# Altium schematic symbol library 13-Relay.SchLib: 5 symbols
Pins are listed as number, name and electrical type; pins without a type are passive.

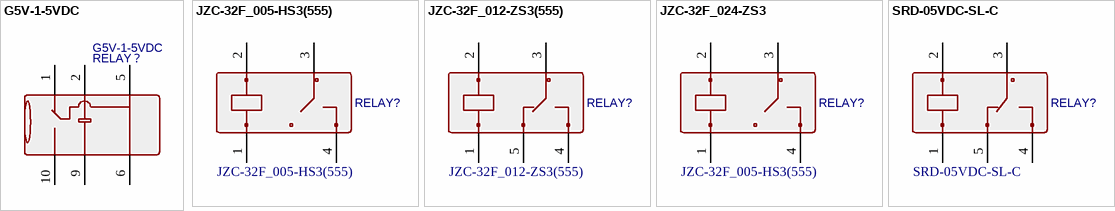
[diagram p0: symbols G5V-1-5VDC to SRD-05VDC-SL-C]

## G5V-1-5VDC
designator RELAY？
欧姆龙 继电器; BOM_Manufacturer: OMRON; BOM_Supplier: LCSC; BOM_Manufacturer Part: G5V-1-5VDC; image: //image.lceda.cn/szlcsc/C28695.jpg; BOM_Supplier Part: C28695; spicePre: R; spiceSymbolName: G5V-1-5VDC
footprint RELAY TH_G5V-1
pins: 1, 2, 5, 6, 9, 10

## JZC-32F_005-HS3(555)
designator RELAY?
继电器; BOM_Manufacturer: HF; BOM_Manufacturer Part: JZC-32F/5-ZS3(555); BOM_Supplier: LCSC; image: //image.lceda.cn/szlcsc/C9223.jpg; BOM_Supplier Part: C9223; spicePre: R; Value: JZC-32F_005-HS3(555)
footprint RELAY HF_28
pins: 1, 2, 3, 4

## JZC-32F_012-ZS3(555)
designator RELAY?
继电器; BOM_Manufacturer: HF; BOM_Manufacturer Part: JZC-32F/5-ZS3(555); BOM_Supplier: LCSC; image: //image.lceda.cn/szlcsc/C9223.jpg; BOM_Supplier Part: C9223; spicePre: R; Value: JZC-32F_012-ZS3(555)
footprint RELAY HF_28
pins: 1, 2, 3, 4, 5

## JZC-32F_024-ZS3
designator RELAY?  value JZC-32F_005-HS3(555)  (hidden comment: JZC-32F_024-ZS3)
继电器; BOM_Manufacturer: HF; BOM_Manufacturer Part: JZC-32F/5-ZS3(555); BOM_Supplier: LCSC; image: //image.lceda.cn/szlcsc/C9223.jpg; BOM_Supplier Part: C9223; spicePre: R
footprint RELAY HF_28
pins: 1, 2, 3, 4

## SRD-05VDC-SL-C
designator RELAY?
继电器; BOM_Manufacturer: HF; BOM_Manufacturer Part: JZC-32F/5-ZS3(555); BOM_Supplier: LCSC; image: //image.lceda.cn/szlcsc/C9223.jpg; BOM_Supplier Part: C9223; spicePre: R; Value: SRD-05VDC-SL-C
footprint RELAY SRD-C_B (单刀双投)
footprint RELAY SRD-C_BK (单刀双投)
footprint RELAY SRD-C_Y (单刀双投)
pins: 1, 2, 3, 4, 5